# EAGLE library part BTS555 (library bts555)
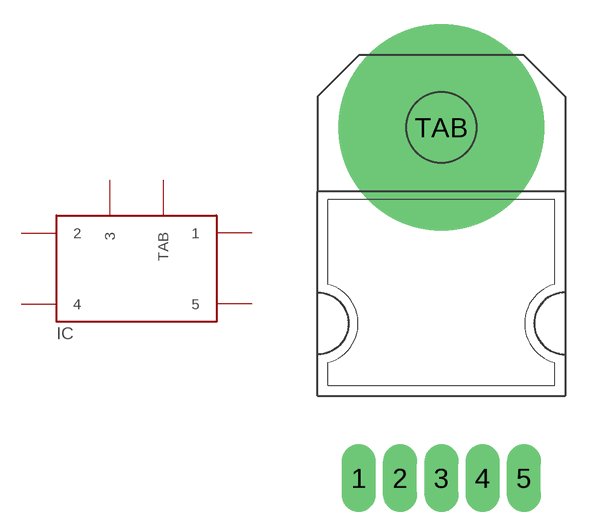
[diagram p0: symbol with the pads of TO218; footprint TO218]

Designator prefix IC

## BTS555  [TO218]
1  1
2  2
3  3
4  4
5  5
TAB  TAB

## Footprint TO218 (pad centres in mm)
drill 1.397 long: 1 -5.08,-10.16; 2 -2.54,-10.16; 3 0,-10.16; 4 2.54,-10.16; 5 5.08,-10.16
drill 4.064 pad 12.7: TAB 0,11.43